# EAGLE library part FAN73912AMX (library FAN73912AMX)
Floating Channel for Bootstrap Operation to +1200 V; Typically 2 A/ 3 A Sourcing/Sinking Current Driving Capability for Both Channels; Gate Driver Supply (VCC) Range from 12 V to 20 V; Separate Logic Supply (VDD) Range from 3 V to 20 V; Extended Allowable Negative VS Swing to -9.8 V for Signal Propagation at VCC=VBS=15 V; Built-in Cycle-by-Cycle Edge-Triggered Shutdown Logic; Common-Mode dv/dt Noise Canceling Circuit; UVLO Functions for Both Channels; Built-in Advanced Input Filter; Matched Propagation Dela Source: Datasheet <https://www.onsemi.com/pub/Collateral/FAN73912A-D.PDF>
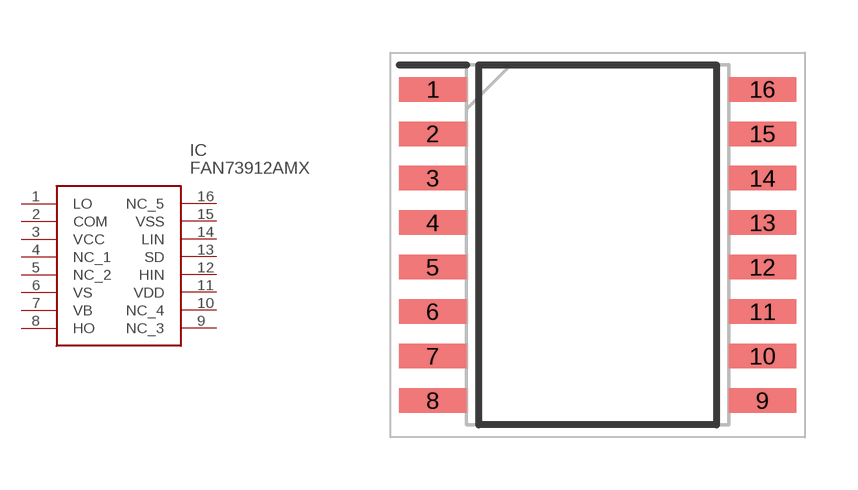
[diagram p0: symbol with the pads of SOIC127P1032X264-16N; footprint SOIC127P1032X264-16N]

Designator prefix IC

## FAN73912AMX (Description: Floating Channel for Bootstrap Operation to +1200 V; Typically 2 A/ 3 A Sourcing/Sinking Current Driving Capability for Both Channels; Gate Driver Supply (VCC) Range from 12 V to 20 V; Separate Logic Supply (VDD) Range from 3 V to 20 V; Extended Allowable Negative VS Swing to -9.8 V for Signal Propagation at VCC=VBS=15 V; Built-in Cycle-by-Cycle Edge-Triggered Shutdown Logic; Common-Mode dv/dt Noise Canceling Circuit; UVLO Functions for Both Channels; Built-in Advanced Input Filter; Matched Propagation Dela; Height: 2.64mm; Manufacturer_Name: onsemi; Manufacturer_Part_Number: FAN73912AMX; Mouser_Part_Number: 863-FAN73912AMX; Mouser_Price-Stock: https://www.mouser.co.uk/ProductDetail/onsemi/FAN73912AMX?qs=HBWAp0VN4Rig4jonAM17%2Fg%3D%3D)  [SOIC127P1032X264-16N]
1  LO
2  COM
3  VCC
4  NC_1
5  NC_2
6  VS
7  VB
8  HO
9  NC_3
10  NC_4
11  VDD
12  HIN
13  SD
14  LIN
15  VSS
16  NC_5

## Footprint SOIC127P1032X264-16N (pad centres in mm)
FAN73912AMX
smd 1.93 x 0.7: 1 -4.71,4.445; 2 -4.71,3.175; 3 -4.71,1.905; 4 -4.71,0.635; 5 -4.71,-0.635; 6 -4.71,-1.905; 7 -4.71,-3.175; 8 -4.71,-4.445; 9 4.71,-4.445; 10 4.71,-3.175; 11 4.71,-1.905; 12 4.71,-0.635; 13 4.71,0.635; 14 4.71,1.905; 15 4.71,3.175; 16 4.71,4.445